# EAGLE library part THN15 (library 000001)
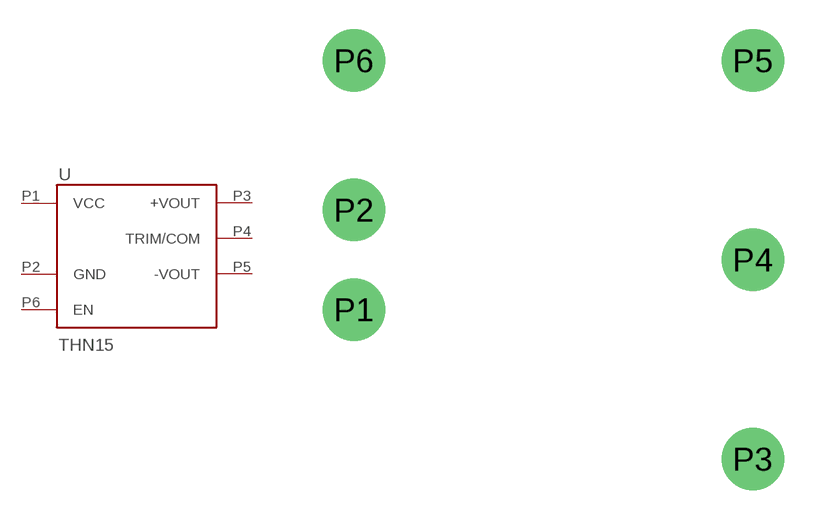
[diagram p79: symbol with the pads of THN15; footprint THN15]

Designator prefix -

## THN15H  [THN15]
P1  VCC  pwr
P2  GND  pwr
P3  +VOUT  pwr
P4  TRIM/COM  pwr
P5  -VOUT  pwr
P6  EN  in

## Footprint THN15 (pad centres in mm)
drill 0.5 pad 3.175 round: P1 -8.89,-2.54; P2 -8.89,2.54; P3 11.43,-10.16; P4 11.43,0; P5 11.43,10.16; P6 -8.89,10.16